# Altium footprint library Transmitter_PCB.PcbLib: 7 footprints
Each footprint in its own frame and in the unit in brackets; x right, y up, seen from the top. Pads: shape width x height; smd on the part's side, far side on the other; paste and mask are expansions set on the pad; w line width, h text height; cw(c..) or ccw(c..) is an arc to the next point about the centre after c.
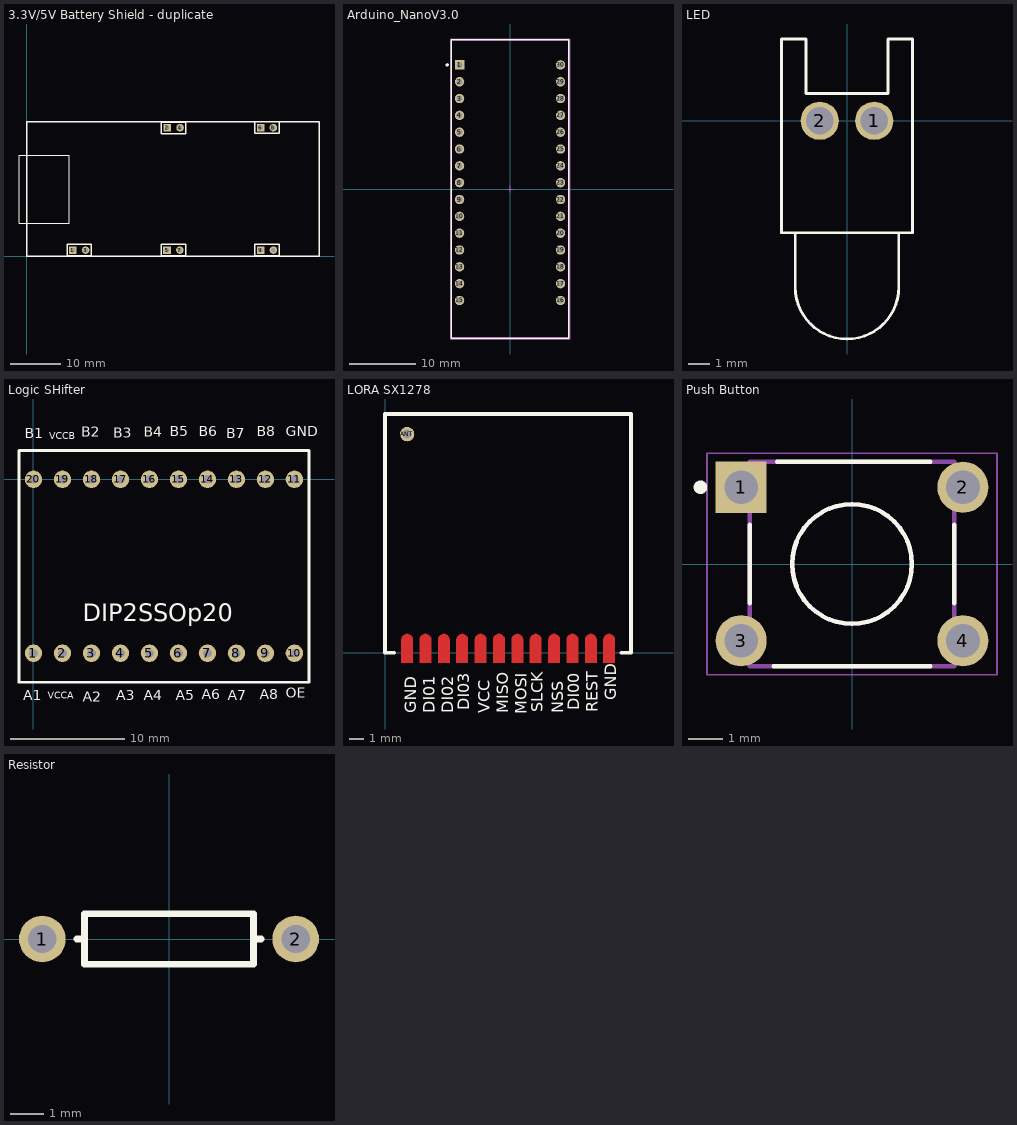
[diagram p0: the footprints below, top view; thin cyan lines are the x and y axes]

## 3.3V/5V Battery Shield - duplicate [mm]
pads (10):
  rect 1.5x1.5 hole 0.9: 1(9.144,1.27) 2(27.853,25.518) 5(27.813,1.27) 6(46.355,25.527) 9(46.355,1.27)
  round 1.5 hole 0.9: 3(11.684,1.27) 4(30.393,25.518) 7(30.353,1.27) 8(48.895,25.527) 11(48.895,1.27)
Top Overlay:
  lines w0.127: -1.524,6.604 8.476,6.604 8.476,20.104 -1.524,20.104 -1.524,6.604
  lines w0.254: 0,0 57.935,0 57.935,26.753 0,26.753 0,0 ; 8.01,0.127 12.827,0.127 12.827,2.407 8.01,2.407 8.01,0.127 ; 26.679,0.127 31.496,0.127 31.496,2.407 26.679,2.407 26.679,0.127 ; 26.719,24.375 31.536,24.375 31.536,26.655 26.719,26.655 26.719,24.375 ; 45.221,0.127 50.038,0.127 50.038,2.407 45.221,2.407 45.221,0.127 ; 45.221,24.384 50.038,24.384 50.038,26.664 45.221,26.664 45.221,24.384

## Arduino_NanoV3.0 [mil]
pads (30):
  rect 55.67x55.67 hole 35.98 paste-39370.1 mask+0: 1(-300,737.5)
  round 55.67 hole 35.98 paste-39370.1 mask+0: 2(-300,637.5) 3(-300,537.5) 4(-300,437.5) 5(-300,337.5) 6(-300,237.5) 7(-300,137.5) 8(-300,37.5) 9(-300,-62.5) 10(-300,-162.5) 11(-300,-262.5) 12(-300,-362.5) 13(-300,-462.5) 14(-300,-562.5) 15(-300,-662.5) 16(300,-662.5) 17(300,-562.5) 18(300,-462.5) 19(300,-362.5) 20(300,-262.5) 21(300,-162.5) 22(300,-62.5) 23(300,37.5) 24(300,137.5) 25(300,237.5) 26(300,337.5) 27(300,437.5) 28(300,537.5) 29(300,637.5) 30(300,737.5)
Top Overlay:
  circle w9.84: c-373.62,737.5 r4.92
  lines w7.87: -350,-887.5 -350,887.5 350,887.5 350,-887.5 -350,-887.5
Top 3D Body:
  lines w7.87: -350,-887.5 -350,887.5 350,887.5 350,-887.5 -350,-887.5
Top Courtyard:
  lines w7.87: -353.94,-891.44 -353.94,891.44 353.94,891.44 353.94,-891.44 -353.94,-891.44
Top Assembly:
  lines w7.87: -353.94,-891.44 -353.94,891.44 353.94,891.44 353.94,-891.44 -353.94,-891.44
Top Component Center:
  lines w3.94: -19.68,0 19.68,0 ; 0,-19.68 0,19.68
3D body "UNK_Arduino_A000005_eec.STEP": height 10, standoff 0, extent -353.94,-891.44 353.94,891.44

## LED [mil]
pads (2):
  round 70 hole 50: 1(50,0) 2(-50,0)
Top Overlay:
  lines w5: -95,-205 -95,-305 ccw(c0,-305) 95,-305 95,-205 ; -120,-205 120,-205 120,150 75,150 75,50 -75,50 -75,150 -120,150 -120,-205

## Logic SHifter [mil]
pads (20):
  round 60 hole 30: 1(0,-600) 2(100,-600) 3(200,-600) 4(300,-600) 5(400,-600) 6(500,-600) 7(600,-600) 8(700,-600) 9(800,-600) 10(900,-600) 11(900,0) 12(800,0) 13(700,0) 14(600,0) 15(500,0) 16(400,0) 17(300,0) 18(200,0) 19(100,0) 20(0,0)
Top Overlay:
  lines w10: -50,-700 -50,100 950,100 950,-700 -50,-700
  text "DIP2SSOp20" at 170,-490.01 h60
  text "VCCB" at 55,130.44 h40
  text "GND" at 870,135.66 h60
  text "OE" at 870,-765.01 h60
  text "VCCA" at 49.96,-765.01 h40
  text "B2" at 165,135 h60
  text "B8" at 770,135.66 h60
  text "B7" at 665,130 h60
  text "B6" at 570,135.66 h60
  text "B5" at 470,135.66 h60
  text "B4" at 380,135 h60
  text "B3" at 275,130.66 h60
  text "A1" at -35,-775 h60
  text "A2" at 170,-780 h60
  text "A3" at 285,-775.01 h60
  text "A4" at 380,-775 h60
  text "A5" at 490,-775.01 h60
  text "A6" at 580,-770.01 h60
  text "A7" at 670,-775 h60
  text "A8" at 780,-770.01 h60
  text "B1" at -30,130 h60

## LORA SX1278 [mil]
pads (13):
  round 1 smd: 1(610,11.81) 2(560,11.81) 3(510,11.81) 4(460,11.81) 5(410,11.81) 6(360,11.81) 7(310,11.81) 8(260,11.81) 9(210,11.81) 10(160,11.81) 11(110,11.81) 12(60,11.81)
  round 39.37 hole 23.62: ANT(60,595)
Top Layer:
  region: 594.25,-27.56 625.75,-27.56 625.75,35.43 625.75,36.98 625.14,40.03 623.96,42.89 622.23,45.47 620.04,47.67 617.46,49.39 614.59,50.58 611.55,51.18 610,51.18 608.45,51.18 605.41,50.58 602.54,49.39 599.96,47.67 597.77,45.47 596.04,42.89 594.86,40.03 594.25,36.98 594.25,35.43
  region: 194.25,-27.56 225.75,-27.56 225.75,35.43 225.75,36.98 225.14,40.03 223.96,42.89 222.23,45.47 220.04,47.67 217.46,49.39 214.59,50.58 211.55,51.18 210,51.18 208.45,51.18 205.41,50.58 202.54,49.39 199.96,47.67 197.77,45.47 196.04,42.89 194.86,40.03 194.25,36.98 194.25,35.43
  region: 244.25,-27.56 275.75,-27.56 275.75,35.43 275.75,36.98 275.14,40.03 273.96,42.89 272.23,45.47 270.04,47.67 267.46,49.39 264.59,50.58 261.55,51.18 260,51.18 258.45,51.18 255.41,50.58 252.54,49.39 249.96,47.67 247.77,45.47 246.04,42.89 244.86,40.03 244.25,36.98 244.25,35.43
  region: 294.25,-27.56 325.75,-27.56 325.75,35.43 325.75,36.98 325.14,40.03 323.96,42.89 322.23,45.47 320.04,47.67 317.46,49.39 314.59,50.58 311.55,51.18 310,51.18 308.45,51.18 305.41,50.58 302.54,49.39 299.96,47.67 297.77,45.47 296.04,42.89 294.86,40.03 294.25,36.98 294.25,35.43
  region: 344.25,-27.56 375.75,-27.56 375.75,35.43 375.75,36.98 375.14,40.03 373.96,42.89 372.23,45.47 370.04,47.67 367.46,49.39 364.59,50.58 361.55,51.18 360,51.18 358.45,51.18 355.41,50.58 352.54,49.39 349.96,47.67 347.77,45.47 346.04,42.89 344.86,40.03 344.25,36.98 344.25,35.43
  region: 394.25,-27.56 425.75,-27.56 425.75,35.43 425.75,36.98 425.14,40.03 423.96,42.89 422.23,45.47 420.04,47.67 417.46,49.39 414.59,50.58 411.55,51.18 410,51.18 408.45,51.18 405.41,50.58 402.54,49.39 399.96,47.67 397.77,45.47 396.04,42.89 394.86,40.03 394.25,36.98 394.25,35.43
  region: 444.25,-27.56 475.75,-27.56 475.75,35.43 475.75,36.98 475.14,40.03 473.96,42.89 472.23,45.47 470.04,47.67 467.46,49.39 464.59,50.58 461.55,51.18 460,51.18 458.45,51.18 455.41,50.58 452.54,49.39 449.96,47.67 447.77,45.47 446.04,42.89 444.86,40.03 444.25,36.98 444.25,35.43
  region: 494.25,-27.56 525.75,-27.56 525.75,35.43 525.75,36.98 525.14,40.03 523.96,42.89 522.23,45.47 520.04,47.67 517.46,49.39 514.59,50.58 511.55,51.18 510,51.18 508.45,51.18 505.41,50.58 502.54,49.39 499.96,47.67 497.77,45.47 496.04,42.89 494.86,40.03 494.25,36.98 494.25,35.43
  region: 544.25,-27.56 575.75,-27.56 575.75,35.43 575.75,36.98 575.14,40.03 573.96,42.89 572.23,45.47 570.04,47.67 567.46,49.39 564.59,50.58 561.55,51.18 560,51.18 558.45,51.18 555.41,50.58 552.54,49.39 549.96,47.67 547.77,45.47 546.04,42.89 544.86,40.03 544.25,36.98 544.25,35.43
  region: 94.25,-27.56 125.75,-27.56 125.75,35.43 125.75,36.98 125.14,40.03 123.96,42.89 122.23,45.47 120.04,47.67 117.46,49.39 114.59,50.58 111.55,51.18 110,51.18 108.45,51.18 105.41,50.58 102.54,49.39 99.96,47.67 97.77,45.47 96.04,42.89 94.86,40.03 94.25,36.98 94.25,35.43
  region: 144.25,-27.56 175.75,-27.56 175.75,35.43 175.75,36.98 175.14,40.03 173.96,42.89 172.23,45.47 170.04,47.67 167.46,49.39 164.59,50.58 161.55,51.18 160,51.18 158.45,51.18 155.41,50.58 152.54,49.39 149.96,47.67 147.77,45.47 146.04,42.89 144.86,40.03 144.25,36.98 144.25,35.43
  region: 44.25,-27.56 75.75,-27.56 75.75,35.43 75.75,36.98 75.14,40.03 73.96,42.89 72.23,45.47 70.04,47.67 67.46,49.39 64.59,50.58 61.55,51.18 60,51.18 58.45,51.18 55.41,50.58 52.54,49.39 49.96,47.67 47.77,45.47 46.04,42.89 44.86,40.03 44.25,36.98 44.25,35.43
Top Overlay:
  lines w10: 25,0 0,0 0,649.61 669.29,649.61 669.29,0 ; 643.7,0 668.7,0
  text "GND" at 629.1,-129.87 h31.5
  text "DI00" at 529.1,-156.1 h31.5
  text "DI03" at 229.1,-156.1 h31.5
  text "NSS" at 485,-165 h31.5
  text "MISO" at 335,-165 h31.5
  text "VCC" at 285,-165 h31.5
  text "DI02" at 185,-165 h31.5
  text "GND" at 85,-165 h31.5
  text "DI01" at 135,-165 h31.5
  text "MOSI" at 385,-166.76 h31.5
  text "REST" at 579.1,-161.35 h31.5
  text "SLCK" at 429.1,-161.35 h31.5

## Push Button [mm]
pads (4):
  rect 1.498x1.498 hole 0.99: 1(-3.25,2.25)
  round 1.498 hole 0.99: 2(3.25,2.25) 3(-3.25,-2.25) 4(3.25,-2.25)
Top Overlay:
  circle w0.127: c0,0 r1.755
  circle w0.2: c-4.445,2.25 r0.1
  lines w0.127: -2.995,-1.15 -2.995,1.15 ; -2.3,-2.995 2.3,-2.995 ; -2.2,2.995 2.3,2.995 ; 3,-1.15 3,1.15
Mechanical 13:
  circle w0.127: c0,0 r1.755
  lines w0.127: -2.995,-2.995 -2.995,2.995 2.995,2.995 2.995,-2.995 -2.995,-2.995
Mechanical 15:
  lines w0.05: -4.25,-3.25 -4.25,3.25 4.25,3.25 4.25,-3.25 -4.25,-3.25

## Resistor [mm]
pads (2):
  round 1.4 hole 0.85: 1(-3.81,0) 2(3.81,0)
Top Overlay:
  lines w0.2: -2.769,0 -2.54,0 ; 2.769,0 2.54,0 ; 2.54,0 2.54,-0.762 -2.54,-0.762 -2.54,0.762 2.54,0.762 2.54,0